# EAGLE library part LMR50410XFDBVR (library LMR50410XFDBVR)
Simple Switcher 4-V To 36-V, 1-A Buck Converter In SOT-23-6 Package Source: Datasheet <https://www.ti.com/lit/ds/symlink/lmr50410.pdf?ts=1614072497398&ref_url=https%3A%2F%2Fwww.mouser.de%2F>
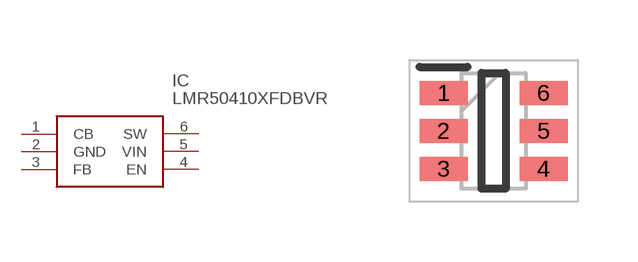
[diagram p0: symbol with the pads of SOT95P280X145-6N; footprint SOT95P280X145-6N]

Designator prefix IC

## LMR50410XFDBVR (Description: Simple Switcher 4-V To 36-V, 1-A Buck Converter In SOT-23-6 Package; Height: 1.45mm; Manufacturer_Name: Texas Instruments; Manufacturer_Part_Number: LMR50410XFDBVR; Mouser_Part_Number: 595-LMR50410XFDBVR; Mouser_Price-Stock: https://www.mouser.co.uk/ProductDetail/Texas-Instruments/LMR50410XFDBVR?qs=81r%252BiQLm7BS8rTEbBMRIqw%3D%3D)  [SOT95P280X145-6N]
1  CB
2  GND
3  FB
4  EN
5  VIN
6  SW

## Footprint SOT95P280X145-6N (pad centres in mm)
DBV (R-PDSO-G6)
smd 1.2 x 0.6: 1 -1.25,0.95; 2 -1.25,0; 3 -1.25,-0.95; 4 1.25,-0.95; 5 1.25,0; 6 1.25,0.95